# Altium schematic symbol library USB Charger Project.SchLib: 28 symbols
Pins are listed as number, name and electrical type; pins without a type are passive.

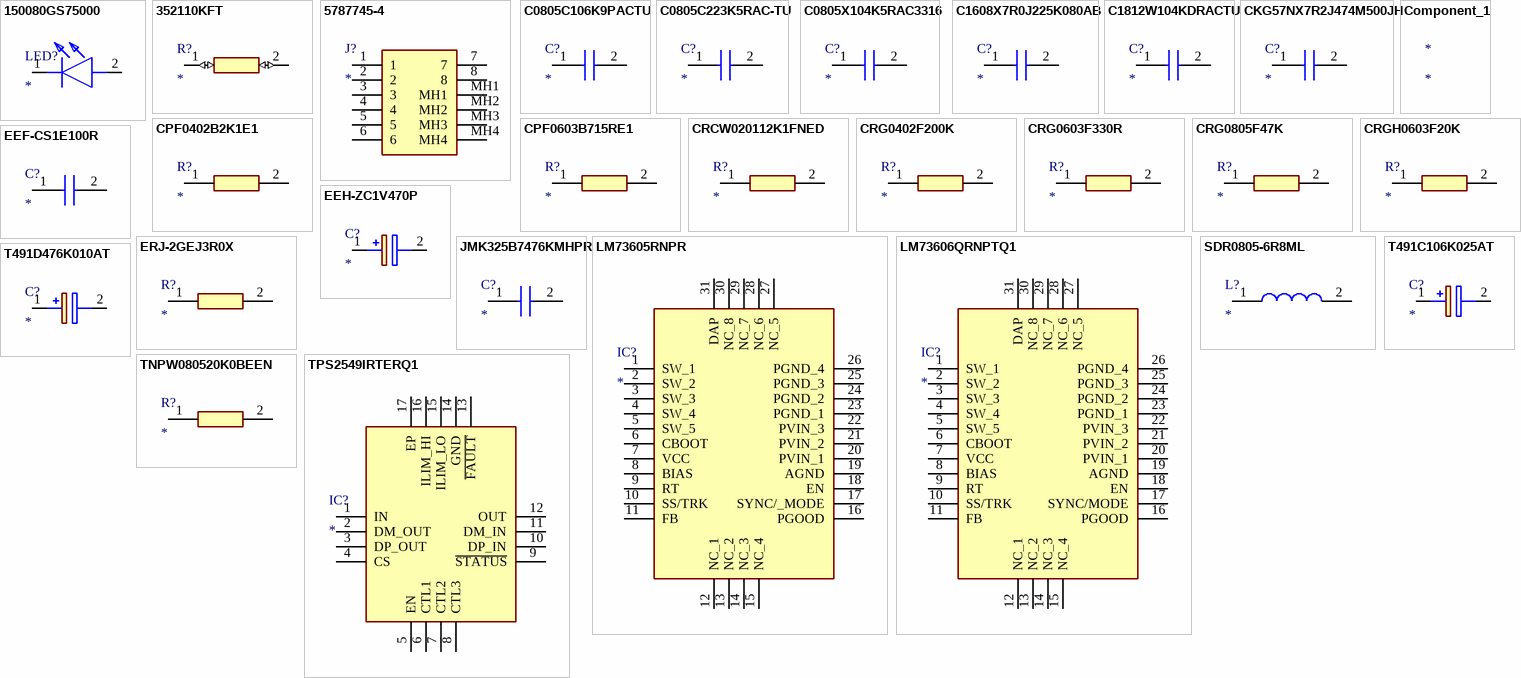
[diagram p0: symbols 150080GS75000 to TPS2549IRTERQ1]

## 150080GS75000
designator LED?
LED; Manufacturer_Name: Wurth Elektronik; Manufacturer_Part_Number: 150080GS75000; Datasheet Link: https://katalog.we-online.com/led/datasheet/150080GS75000.pdf; Height: 0.8mm; Mouser Part Number: 710-150080GS75000; Mouser Price/Stock: https://www.mouser.co.uk/ProductDetail/Wurth-Elektronik/150080GS75000?qs=2kOmHSv6VfQRoTEZVk1mGA%3D%3D
footprint LEDM2012X80N
pins: 1 K, 2 A

## 352110KFT
designator R?
Resistor; Manufacturer_Name: TE Connectivity; Manufacturer_Part_Number: 352110KFT; Datasheet Link: https://eagle.componentsearchengine.com/Datasheets/2/352110KFT.pdf; Height: 1.2mm; Mouser Part Number: 279-352110KFT; Mouser Price/Stock: https://www.mouser.co.uk/ProductDetail/TE-Connectivity-Holsworthy/352110KFT?qs=IXkKOuu5vnE9cBrG90Zs%2Fw%3D%3D; Arrow Part Number: 352110KFT; Arrow Price/Stock: https://www.arrow.com/en/products/352110kft/te-connectivity
footprint RESC6432X120N
pins: 1 (io), 2 (io)

## 5787745-4
designator J?
Connector; Manufacturer_Name: TE Connectivity; Manufacturer_Part_Number: 5787745-4; Datasheet Link: https://www.te.com/commerce/DocumentDelivery/DDEController?Action=showdoc&DocId=Customer+Drawing%7F5787745%7FA2%7Fpdf%7FEnglish%7FENG_CD_5787745_A2.pdf%7F5787745-4; Height: 16.26mm; Mouser Part Number: 571-5787745-4; Mouser Price/Stock: https://www.mouser.co.uk/ProductDetail/TE-Connectivity-AMP/5787745-4?qs=ozkTL%2FUej0Qyafe7%252BOKSRQ%3D%3D; Arrow Part Number: 5787745-4; Arrow Price/Stock: https://www.arrow.com/en/products/5787745-4/te-connectivity
footprint 57877454
pins: 1, 2, 3, 4, 5, 6, 7, 8, MH1, MH2, MH3, MH4

## C0805C106K9PACTU
designator C?
Capacitor; Manufacturer_Name: KEMET; Manufacturer_Part_Number: C0805C106K9PACTU; Datasheet Link: https://content.kemet.com/datasheets/KEM_C1006_X5R_SMD.pdf; Height: 1.1mm; Mouser Part Number: 80-C0805C106K9P; Mouser Price/Stock: https://www.mouser.co.uk/ProductDetail/KEMET/C0805C106K9PACTU?qs=XSafd0xJmRKSlopKOUHD0w%3D%3D; Arrow Part Number: C0805C106K9PACTU; Arrow Price/Stock: https://www.arrow.com/en/products/c0805c106k9pactu/kemet-corporation?region=nac
footprint C0805
pins: 1, 2

## C0805C223K5RAC-TU
designator C?
Capacitor; Manufacturer_Name: KEMET; Manufacturer_Part_Number: C0805C223K5RAC-TU; Datasheet Link: https://connect.kemet.com:7667/gateway/IntelliData-ComponentDocumentation/1.0/download/specsheet/C0805C223K5RACTU; Height: 0.88mm; Arrow Part Number: C0805C223K5RAC-TU; Arrow Price/Stock: https://www.arrow.com/en/products/c0805c223k5ractu/kemet-corporation
footprint CAPC2012X88N
pins: 1, 2

## C0805X104K5RAC3316
designator C?
Capacitor; Manufacturer_Name: KEMET; Manufacturer_Part_Number: C0805X104K5RAC3316; Datasheet Link: https://content.kemet.com/datasheets/KEM_X7R_FT_VW_AUDI.pdf; Height: 1.1mm; Mouser Part Number: 80-C0805X104K5R3316; Mouser Price/Stock: https://www.mouser.co.uk/ProductDetail/KEMET/C0805X104K5RAC3316?qs=vLWxofP3U2wSOEpkvhvxCw%3D%3D; Arrow Part Number: C0805X104K5RAC3316; Arrow Price/Stock: https://www.arrow.com/en/products/c0805x104k5rac3316/kemet-corporation?region=nac
footprint C0805
pins: 1, 2

## C1608X7R0J225K080AB
designator C?
Capacitor; Manufacturer_Name: TDK; Manufacturer_Part_Number: C1608X7R0J225K080AB; Datasheet Link: https://product.tdk.com/info/en/catalog/datasheets/mlcc_commercial_midvoltage_en.pdf; Height: 0.8mm; Mouser Part Number: 810-C1608X7R0J225K; Mouser Price/Stock: https://www.mouser.co.uk/ProductDetail/TDK/C1608X7R0J225K080AB?qs=NRhsANhppD8GGBuKEoCmvQ%3D%3D; Arrow Part Number: C1608X7R0J225K080AB; Arrow Price/Stock: https://www.arrow.com/en/products/c1608x7r0j225k080ab/tdk
footprint CAPC1608X80N
pins: 1, 2

## C1812W104KDRACTU
designator C?
Capacitor; Manufacturer_Name: KEMET; Manufacturer_Part_Number: C1812W104KDRACTU; Datasheet Link: https://content.kemet.com/datasheets/KEM_C1034_X7R_HV_ARC_SMD.pdf; Mouser Part Number: 80-C1812W104KDR; Mouser Price/Stock: https://www.mouser.co.uk/ProductDetail/KEMET/C1812W104KDRACTU?qs=Wo0SukjKc%2F9zk9O%2FbEe74A%3D%3D; Arrow Part Number: C1812W104KDRACTU; Arrow Price/Stock: https://www.arrow.com/en/products/c1812w104kdractu/kemet-corporation
footprint C1812_FT
pins: 1, 2

## CKG57NX7R2J474M500JH
designator C?
Capacitor; Manufacturer_Name: TDK; Manufacturer_Part_Number: CKG57NX7R2J474M500JH; Datasheet Link: https://product.tdk.com/system/files/dam/doc/product/capacitor/ceramic/mlcc/catalog/mlcc_commercial_megacap_en.pdf; Height: 5.5mm; Mouser Part Number: 810-CKG57NX7R2J474M; Mouser Price/Stock: https://www.mouser.co.uk/ProductDetail/TDK/CKG57NX7R2J474M500JH?qs=NRhsANhppD%252BAmXDR5rVERg%3D%3D; Arrow Part Number: CKG57NX7R2J474M500JH; Arrow Price/Stock: https://www.arrow.com/en/products/ckg57nx7r2j474m500jh/tdk?region=nac
footprint CAPC6050X550N
pins: 1, 2

## Component_1
designator *

## CPF0402B2K1E1
designator R?
Resistor; Manufacturer_Name: TE Connectivity; Manufacturer_Part_Number: CPF0402B2K1E1; Datasheet Link: http://www.farnell.com/datasheets/1786775.pdf; Height: 0.35mm
footprint RESC1005X35N
pins: 1, 2

## CPF0603B715RE1
designator R?
Resistor; Manufacturer_Name: TE Connectivity; Manufacturer_Part_Number: CPF0603B715RE1; Datasheet Link: http://www.farnell.com/datasheets/1786775.pdf; Height: 0.55mm
footprint RESC1608X55N
pins: 1, 2

## CRCW020112K1FNED
designator R?
Resistor; Manufacturer_Name: Vishay; Manufacturer_Part_Number: CRCW020112K1FNED; Datasheet Link: http://www.vishay.com/docs/20035/dcrcwe3.pdf; Height: 0.28mm
footprint RESC0603X28N
pins: 1, 2

## CRG0402F200K
designator R?
Resistor; Manufacturer_Name: TE Connectivity; Manufacturer_Part_Number: CRG0402F200K; Datasheet Link: http://docs-europe.electrocomponents.com/webdocs/13d1/0900766b813d116f.pdf; Height: 0.4mm; Mouser Part Number: 279-CRG0402F200K; Mouser Price/Stock: https://www.mouser.co.uk/ProductDetail/TE-Connectivity-Holsworthy/CRG0402F200K?qs=HLeXuo0aL2qSpg6Lv0wPnA%3D%3D; Arrow Part Number: CRG0402F200K; Arrow Price/Stock: https://www.arrow.com/en/products/crg0402f200k/te-connectivity?region=nac
footprint RESC1005X40N
pins: 1, 2

## CRG0603F330R
designator R?
Resistor; Manufacturer_Name: TE Connectivity; Manufacturer_Part_Number: CRG0603F330R; Datasheet Link: http://docs-europe.electrocomponents.com/webdocs/13d1/0900766b813d116f.pdf; Height: 0.55mm; Mouser Part Number: 279-CRG0603F330R; Mouser Price/Stock: https://www.mouser.co.uk/ProductDetail/TE-Connectivity-Holsworthy/CRG0603F330R?qs=VHcS2MTj4gbwoBQCSa%252B2DQ%3D%3D; Arrow Part Number: CRG0603F330R; Arrow Price/Stock: https://www.arrow.com/en/products/crg0603f330r/te-connectivity
footprint RESC1608X55N
pins: 1, 2

## CRG0805F47K
designator R?
Resistor; Manufacturer_Name: TE Connectivity; Manufacturer_Part_Number: CRG0805F47K; Datasheet Link: http://www.te.com/commerce/DocumentDelivery/DDEController?Action=showdoc&DocId=Customer+Drawing%7F1623109%7FBA%7Fpdf%7FEnglish%7FENG_CD_1623109_BA.pdf%7F1623109-1; Height: 0.65mm; Mouser Part Number: 279-CRG0805F47K; Mouser Price/Stock: https://www.mouser.co.uk/ProductDetail/TE-Connectivity-Holsworthy/CRG0805F47K?qs=VHcS2MTj4gZHzoMPVVm%252BWg%3D%3D; Arrow Part Number: CRG0805F47K; Arrow Price/Stock: https://www.arrow.com/en/products/crg0805f47k/te-connectivity?region=nac
footprint RESC2012X65N
pins: 1, 2

## CRGH0603F20K
designator R?
Resistor; Manufacturer_Name: TE Connectivity; Manufacturer_Part_Number: CRGH0603F20K; Datasheet Link: http://docs-europe.electrocomponents.com/webdocs/12d7/0900766b812d7379.pdf; Height: 0.55mm; Mouser Part Number: 279-CRGH0603F20K; Mouser Price/Stock: https://www.mouser.co.uk/ProductDetail/TE-Connectivity-Holsworthy/CRGH0603F20K?qs=iJVBkmKXgrmcei%252BB1D3Tlg%3D%3D
footprint RESC1608X55N
pins: 1, 2

## EEF-CS1E100R
designator C?
Capacitor; Manufacturer_Name: Panasonic; Manufacturer_Part_Number: EEF-CS1E100R; Datasheet Link: https://industrial.panasonic.com/cdbs/www-data/pdf/ABE0000/ABE0000C49.pdf; Height: 1.2mm; Mouser Part Number: 667-EEF-CS1E100R; Mouser Price/Stock: https://www.mouser.com/Search/Refine.aspx?Keyword=667-EEF-CS1E100R; Arrow Part Number: EEF-CS1E100R; Arrow Price/Stock: https://www.arrow.com/en/products/eef-cs1e100r/panasonic
footprint CAPPM7343X120N
pins: 1 +, 2 -

## EEH-ZC1V470P
designator C?
Capacitor Polarised; Manufacturer_Name: Panasonic; Manufacturer_Part_Number: EEH-ZC1V470P; Datasheet Link: http://industrial.panasonic.com/cdbs/www-data/pdf/RDD0000/ABA0000C1234.pdf; Height: 8.3mm; Mouser Part Number: 667-EEH-ZC1V470P; Mouser Price/Stock: https://www.mouser.co.uk/ProductDetail/Panasonic/EEH-ZC1V470P?qs=7UCyOFMWVHaF7rPQPGVqTA%3D%3D
footprint EEHZA1E101XP
pins: 1 +, 2 -

## ERJ-2GEJ3R0X
designator R?
Resistor; Manufacturer_Name: Panasonic; Manufacturer_Part_Number: ERJ-2GEJ3R0X; Description: PANASONIC ELECTRONIC COMPONENTS - ERJ2GEJ3R0X - RES; Datasheet Link: https://datasheet.datasheetarchive.com/originals/distributors/DKDS40/DSANUWW0010665.pdf; Height: 0.4mm; Mouser Part Number: 667-ERJ-2GEJ3R0X; Mouser Price/Stock: https://www.mouser.com/Search/Refine.aspx?Keyword=667-ERJ-2GEJ3R0X; Arrow Part Number: ERJ-2GEJ3R0X; Arrow Price/Stock: https://www.arrow.com/en/products/erj-2gej3r0x/panasonic
footprint ERJ2RKD1004X
pins: 1, 2

## JMK325B7476KMHPR
designator C?
Capacitor; Manufacturer_Name: TAIYO YUDEN; Manufacturer_Part_Number: JMK325B7476KMHPR; Datasheet Link: https://ds.yuden.co.jp/TYCOMPAS/ut/detail?pn=MCASJ32MSB7476KPNB25&u=M; Height: 2.7mm; Mouser Part Number: 963-JMK325B7476KMHPR; Mouser Price/Stock: https://www.mouser.com/Search/Refine.aspx?Keyword=963-JMK325B7476KMHPR
footprint CAPC3225X270N
pins: 1, 2

## LM73605RNPR
designator IC?
Integrated Circuit; Manufacturer_Name: Texas Instruments; Manufacturer_Part_Number: LM73605RNPR; Datasheet Link: https://www.ti.com/lit/ds/symlink/lm73605.pdf?HQS=dis-dk-null-digikeymode-dsf-pf-null-wwe&ts=1649048227749&ref_url=https%253A%252F%252Fwww.ti.com%252Fgeneral%252Fdocs%252Fsuppproductinfo.tsp%253FdistId%253D10%2526gotoUrl%253Dhttps%253A%252F%252Fwww.ti.com; Height: 0.8mm; Mouser Part Number: 595-LM73605RNPR; Mouser Price/Stock: https://www.mouser.co.uk/ProductDetail/Texas-Instruments/LM73605RNPR?qs=G55MHhPmvtKjvNMBdwXrjw%3D%3D
footprint QFN50P400X600X80-31N-D
pins: 1 SW_1, 2 SW_2, 3 SW_3, 4 SW_4, 5 SW_5, 6 CBOOT, 7 VCC, 8 BIAS, 9 RT, 10 SS/TRK, 11 FB, 12 NC_1, 13 NC_2, 14 NC_3, 15 NC_4, 16 PGOOD, 17 SYNC/_MODE, 18 EN, 19 AGND, 20 PVIN_1, 21 PVIN_2, 22 PVIN_3, 23 PGND_1, 24 PGND_2, 25 PGND_3, 26 PGND_4, 27 NC_5, 28 NC_6, 29 NC_7, 30 NC_8, 31 DAP

## LM73606QRNPTQ1
designator IC?
Integrated Circuit; Manufacturer_Name: Texas Instruments; Manufacturer_Part_Number: LM73606QRNPTQ1; Datasheet Link: http://www.ti.com/lit/gpn/lm73606-q1; Height: 0.8mm; Mouser Part Number: 595-LM73606QRNPTQ1; Mouser Price/Stock: https://www.mouser.co.uk/ProductDetail/Texas-Instruments/LM73606QRNPTQ1?qs=chTDxNqvsyktEmYnupKGIQ%3D%3D; Arrow Part Number: LM73606QRNPTQ1; Arrow Price/Stock: https://www.arrow.com/en/products/lm73606qrnptq1/texas-instruments
footprint QFN50P400X600X80-31N-D
pins: 1 SW_1, 2 SW_2, 3 SW_3, 4 SW_4, 5 SW_5, 6 CBOOT, 7 VCC, 8 BIAS, 9 RT, 10 SS/TRK, 11 FB, 12 NC_1, 13 NC_2, 14 NC_3, 15 NC_4, 16 PGOOD, 17 SYNC/MODE, 18 EN, 19 AGND, 20 PVIN_1, 21 PVIN_2, 22 PVIN_3, 23 PGND_1, 24 PGND_2, 25 PGND_3, 26 PGND_4, 27 NC_5, 28 NC_6, 29 NC_7, 30 NC_8, 31 DAP

## SDR0805-6R8ML
designator L?
Inductor; Manufacturer_Name: Bourns; Manufacturer_Part_Number: SDR0805-6R8ML; Datasheet Link: https://componentsearchengine.com/Datasheets/2/SDR0805-6R8ML.pdf; Height: 5.3mm; Mouser Part Number: 652-SDR0805-6R8ML; Mouser Price/Stock: https://www.mouser.co.uk/ProductDetail/Bourns/SDR0805-6R8ML?qs=uD%2FoUDWqfvRMWomOplYMJg%3D%3D
footprint SDR08056R8ML
pins: 1, 2

## T491C106K025AT
designator C?
Capacitor Polarised; Manufacturer_Name: KEMET; Manufacturer_Part_Number: T491C106K025AT; Datasheet Link: https://content.kemet.com/datasheets/KEM_T2005_T491.pdf; Height: 2.8mm; Mouser Part Number: 80-T491C106K025; Mouser Price/Stock: https://www.mouser.co.uk/ProductDetail/KEMET/T491C106K025AT?qs=2zs%252BxFBHhrOaQG6%2F4v9NXA%3D%3D; Arrow Part Number: T491C106K025AT; Arrow Price/Stock: https://www.arrow.com/en/products/t491c106k025at/kemet-corporation?region=nac
footprint T491C
pins: 1 +, 2 -

## T491D476K010AT
designator C?
Capacitor Polarised; Manufacturer_Name: KEMET; Manufacturer_Part_Number: T491D476K010AT; Datasheet Link: https://content.kemet.com/datasheets/KEM_T2005_T491.pdf; Height: 3.1mm; Mouser Part Number: 80-T491D476K010; Mouser Price/Stock: https://www.mouser.co.uk/ProductDetail/KEMET/T491D476K010AT?qs=2Dzs5xnho3YQ%252BS58q7unbg%3D%3D; Arrow Part Number: T491D476K010AT; Arrow Price/Stock: https://www.arrow.com/en/products/t491d476k010at/kemet-corporation
footprint T491D
pins: 1 +, 2 -

## TNPW080520K0BEEN
designator R?
Resistor; Manufacturer_Name: Vishay; Manufacturer_Part_Number: TNPW080520K0BEEN; Description: Vishay TNPW Series Thin Film Surface Mount Resistor 0805 Case 20k +/-0.1% +/-25ppm/K; Datasheet Link: http://componentsearchengine.com/Datasheets/1/TNPW080520K0BEEN.pdf; Mouser Part Number: 71-TNPW080520K0BEEN; Mouser Price/Stock: https://www.mouser.co.uk/ProductDetail/Vishay-Dale/TNPW080520K0BEEN?qs=Db%252BqmG6P6GbXMUPhkKoL5w%3D%3D; Arrow Part Number: TNPW080520K0BEEN; Arrow Price/Stock: https://www.arrow.com/en/products/tnpw080520k0been/vishay?region=nac
footprint RESC2013X65N
pins: 1, 2

## TPS2549IRTERQ1
designator IC?
Integrated Circuit; Manufacturer_Name: Texas Instruments; Manufacturer_Part_Number: TPS2549IRTERQ1; Datasheet Link: http://www.ti.com/lit/gpn/TPS2549-Q1; Height: 0.8mm; Mouser Part Number: 595-TPS2549IRTERQ1; Mouser Price/Stock: https://www.mouser.co.uk/ProductDetail/Texas-Instruments/TPS2549IRTERQ1?qs=bY1dm4K8r4UUPMmrjPHWqg%3D%3D; Arrow Part Number: TPS2549IRTERQ1; Arrow Price/Stock: https://www.arrow.com/en/products/tps2549irterq1/texas-instruments
footprint QFN50P300X300X80-17N-D
pins: 1 IN, 2 DM_OUT, 3 DP_OUT, 4 CS, 5 EN, 6 CTL1, 7 CTL2, 8 CTL3, 9 ~{STATUS}, 10 DP_IN, 11 DM_IN, 12 OUT, 13 ~{FAULT}, 14 GND, 15 ILIM_LO, 16 ILIM_HI, 17 EP